# Altium footprint library LCD.PcbLib: 4 footprints
Each footprint in its own frame and in the unit in brackets; x right, y up, seen from the top. Pads: shape width x height; smd on the part's side, far side on the other; paste and mask are expansions set on the pad; w line width, h text height; cw(c..) or ccw(c..) is an arc to the next point about the centre after c.
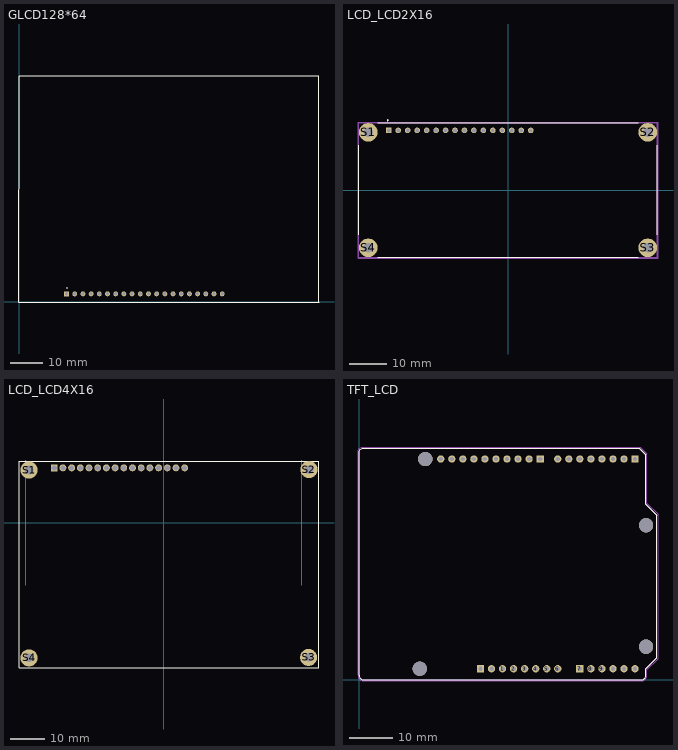
[diagram p0: the footprints below, top view; thin cyan lines are the x and y axes]

## GLCD128*64 [mil]
pads (20):
  rect 59.37x59.37 hole 39.37: 1(580,95.12)
  round 59.37 hole 39.37: 2(680,95.12) 3(780,95.12) 4(880,95.12) 5(980,95.12) 6(1080,95.12) 7(1180,95.12) 8(1280,95.12) 9(1380,95.12) 10(1480,95.12) 11(1580,95.12) 12(1680,95.12) 13(1780,95.12) 14(1880,95.12) 15(1980,95.12) 16(2080,95.12) 17(2180,95.12) 18(2280,95.12) 19(2380,95.12) 20(2480,95.12)
Top Overlay:
  circle w7.87: c585,165 r3.94
  lines w5: 0,2752.44 -0.2,-5 3661.42,-5.26 ; 0,2755 3660,2754.74 ; 3660,-5 3660.2,2752.44
3D body "model.step": height 531.5, standoff 100.01, extent 0,0 3661.42,2755.91

## LCD_LCD2X16 [mm]
pads (20):
  rect 1.508x1.508 hole 1: 1(-32,16)
  round 1.508 hole 1: 2(-29.46,16) 3(-26.92,16) 4(-24.38,16) 5(-21.84,16) 6(-19.3,16) 7(-16.76,16) 8(-14.22,16) 9(-11.68,16) 10(-9.14,16) 11(-6.6,16) 12(-4.06,16) 13(-1.52,16) 14(1.02,16) 15(3.56,16) 16(6.1,16)
  round 5 hole 2.5: S1(-37.5,15.5) S2(37.5,15.5) S3(37.5,-15.5) S4(-37.5,-15.5)
Top Overlay:
  circle w0.2: c-32.3,18.7 r0.1
  lines w0.127: -40,-12 -40,12 ; -35,-18 35,-18 ; -35,18 35,18 ; 40,-12 40,12
Mechanical 13:
  circle w0.2: c-32.3,18.7 r0.1
  lines w0.127: -40,-18 -40,18 40,18 40,-18 -40,-18
Mechanical 15:
  lines w0.05: -40.25,-18.25 40.25,-18.25 40.25,18.25 -40.25,18.25 -40.25,-18.25
3D body "LCD2X16--3DModel-STEP-56544.STEP": height 15, standoff 5, extent -40.127,-18 39.873,18

## LCD_LCD4X16 [mm]
pads (20):
  rect 2x2 hole 1.5: 1(-32,16)
  round 2 hole 1.5: 2(-29.46,16) 3(-26.92,16) 4(-24.38,16) 5(-21.84,16) 6(-19.3,16) 7(-16.76,16) 8(-14.22,16) 9(-11.68,16) 10(-9.14,16) 11(-6.6,16) 12(-4.06,16) 13(-1.52,16) 14(1.02,16) 15(3.56,16) 16(6.1,16)
  round 5 hole 2.5: S1(-39.37,15.367) S2(42.418,15.494) S3(42.291,-39.37) S4(-39.37,-39.497)
Top Overlay:
  lines w0.127: -42.291,-42.418 45.339,-42.418 45.339,18 -42.291,18 -42.291,-42.418
Mechanical 15:
  lines w0.05: -40.25,-18.25 -40.25,18.25 ; 40.25,-18.25 40.25,18.25
3D body "mc41605a6w-bnmlw.stp": height 14, standoff 1.38, extent -42.037,-42.065 44.963,17.935

## TFT_LCD [mil]
pads (36):
  round 66 hole 40: 1(1300,100) 2(1400,100) 3(1500,100) 4(1600,100) 5(1700,100) 6(1800,100) 8(2100,100) 9(2200,100) 10(2300,100) 11(2400,100) 15(2300,2000) 16(2200,2000) 17(2100,2000) 18(2000,2000) 19(1900,2000) 20(1800,2000) 22(1540,2000) 23(1440,2000) 24(1340,2000) 25(1240,2000) 26(1140,2000) 27(1040,2000) A4(SDA)(840,2000) A5(2500,100) A5(SCL)(740,2000) AREF(940,2000) D1(2400,2000) IOREF(1200,100)
  rect 66x66 hole 40: 7(2000,100) 21(1640,2000) D0(2500,2000) P1(1100,100)
  round 129.92 hole 129.92 unplated: ""(550,100) ""(600,2000) ""(2600,300) ""(2600,1400)
Top Overlay:
  lines w5: 0,39.1 1.67,29.1 5,19.94 11.66,11.61 19.99,4.94 29.16,1.61 39.15,-0.05 2559.09,-0.05 2569.09,1.61 2578.26,4.94 2586.59,11.61 2593.25,19.94 2596.58,29.1 2598.25,39.1 2598.25,99.91 2698.21,199.87 2698.21,1488.59 2598.25,1588.55 2598.25,2038.39 2538.27,2098.37 39.15,2098.37 29.16,2096.7 19.99,2092.54 11.66,2086.71 5,2078.38 1.67,2069.21 0,2058.39 0,39.1
Mechanical 13:
  lines w5: 0,39.1 1.67,29.1 5,19.94 11.66,11.61 19.99,4.94 29.16,1.61 39.15,-0.05 2559.09,-0.05 2569.09,1.61 2578.26,4.94 2586.59,11.61 2593.25,19.94 2596.58,29.1 2598.25,39.1 2598.25,99.91 2698.21,199.87 2698.21,1488.59 2598.25,1588.55 2598.25,2038.39 2538.27,2098.37 39.15,2098.37 29.16,2096.7 19.99,2092.54 11.66,2086.71 5,2078.38 1.67,2069.21 0,2058.39 0,39.1
Mechanical 15:
  lines w1.97: -9.84,39.1 -9.84,39.37 -9.84,2068.23 -8.18,2079.06 -4.84,2088.22 1.82,2096.55 10.15,2102.38 19.31,2106.55 29.31,2108.21 2548.11,2108.21 2608.09,2048.23 2608.09,1598.39 2708.06,1498.43 2708.06,190.03 2608.09,90.07 2608.09,39.1 ; -9.83,39.5 ccw(c36.7,36.25) 29.4,-9.82 ; 29.31,-9.9 2559.09,-9.9 ; 2558.61,-9.86 ccw(c2556.81,41.62) 2608.25,38.92
3D body "MTMM-101-06-S-S-200.stp": height 334.85, standoff -62.15, extent 1560.64,60.66 1639.38,139.36
3D body "MTMM-101-06-S-S-200.stp": height 334.85, standoff -62.15, extent 1460.64,60.66 1539.38,139.36
3D body "MTMM-101-06-S-S-200.stp": height 334.85, standoff -62.15, extent 1360.64,60.66 1439.38,139.36
3D body "MTMM-101-06-S-S-200.stp": height 334.85, standoff -62.15, extent 1260.64,60.66 1339.38,139.36
3D body "MTMM-101-06-S-S-200.stp": height 334.85, standoff -62.15, extent 1160.64,60.66 1239.38,139.36
3D body "MTMM-101-06-S-S-200.stp": height 334.85, standoff -62.15, extent 1060.64,60.66 1139.38,139.36
3D body "MTMM-101-06-S-S-200.stp": height 334.85, standoff -62.15, extent 1660.64,60.66 1739.38,139.36
3D body "MTMM-101-06-S-S-200.stp": height 334.85, standoff -62.15, extent 1760.64,60.66 1839.38,139.36
3D body "MTMM-101-06-S-S-200.stp": height 334.85, standoff -62.15, extent 1960.64,60.66 2039.38,139.36
3D body "MTMM-101-06-S-S-200.stp": height 334.85, standoff -62.15, extent 2060.64,60.66 2139.38,139.36
3D body "MTMM-101-06-S-S-200.stp": height 334.85, standoff -62.15, extent 2160.64,60.66 2239.38,139.36
3D body "MTMM-101-06-S-S-200.stp": height 334.85, standoff -62.15, extent 2260.64,60.66 2339.38,139.36
3D body "MTMM-101-06-S-S-200.stp": height 334.85, standoff -62.15, extent 2360.64,60.66 2439.38,139.36
3D body "MTMM-101-06-S-S-200.stp": height 334.85, standoff -62.15, extent 2460.64,60.66 2539.38,139.36
3D body "MTMM-101-06-S-S-200.stp": height 334.85, standoff -62.15, extent 2460.64,1960.66 2539.38,2039.36
3D body "MTMM-101-06-S-S-200.stp": height 334.85, standoff -62.15, extent 2360.64,1960.66 2439.38,2039.36
3D body "MTMM-101-06-S-S-200.stp": height 334.85, standoff -62.15, extent 2260.64,1960.66 2339.38,2039.36
3D body "MTMM-101-06-S-S-200.stp": height 334.85, standoff -62.15, extent 2160.64,1960.66 2239.38,2039.36
3D body "MTMM-101-06-S-S-200.stp": height 334.85, standoff -62.15, extent 2060.64,1960.66 2139.38,2039.36
3D body "MTMM-101-06-S-S-200.stp": height 334.85, standoff -62.15, extent 1960.64,1960.66 2039.38,2039.36
3D body "MTMM-101-06-S-S-200.stp": height 334.85, standoff -62.15, extent 1860.64,1960.66 1939.38,2039.36
3D body "MTMM-101-06-S-S-200.stp": height 334.85, standoff -62.15, extent 1760.64,1960.66 1839.38,2039.36
3D body "MTMM-101-06-S-S-200.stp": height 334.85, standoff -62.15, extent 1600.64,1960.66 1679.38,2039.36
3D body "MTMM-101-06-S-S-200.stp": height 334.85, standoff -62.15, extent 1500.64,1960.66 1579.38,2039.36
3D body "MTMM-101-06-S-S-200.stp": height 334.85, standoff -62.15, extent 1400.64,1960.66 1479.38,2039.36
3D body "MTMM-101-06-S-S-200.stp": height 334.85, standoff -62.15, extent 1300.64,1960.66 1379.38,2039.36
3D body "MTMM-101-06-S-S-200.stp": height 334.85, standoff -62.15, extent 1200.64,1960.66 1279.38,2039.36
3D body "MTMM-101-06-S-S-200.stp": height 334.85, standoff -62.15, extent 1100.64,1960.66 1179.38,2039.36
3D body "MTMM-101-06-S-S-200.stp": height 334.85, standoff -62.15, extent 1000.64,1960.66 1079.38,2039.36
3D body "MTMM-101-06-S-S-200.stp": height 334.85, standoff -62.15, extent 900.64,1960.66 979.38,2039.36
3D body "MTMM-101-06-S-S-200.stp": height 334.85, standoff -62.15, extent 800.64,1960.66 879.38,2039.36
3D body "MTMM-101-06-S-S-200.stp": height 334.85, standoff -62.15, extent 700.64,1960.66 779.38,2039.36
3D body: height 204.72, standoff 196.85, extent -30,6.69 2686.54,2093.31
3D body: height 236.22, standoff 204.72, extent 360,285 2360,1710